# Altium schematic symbol library schmaticSMDv1.SchLib: 102 symbols (part 4 of 4)
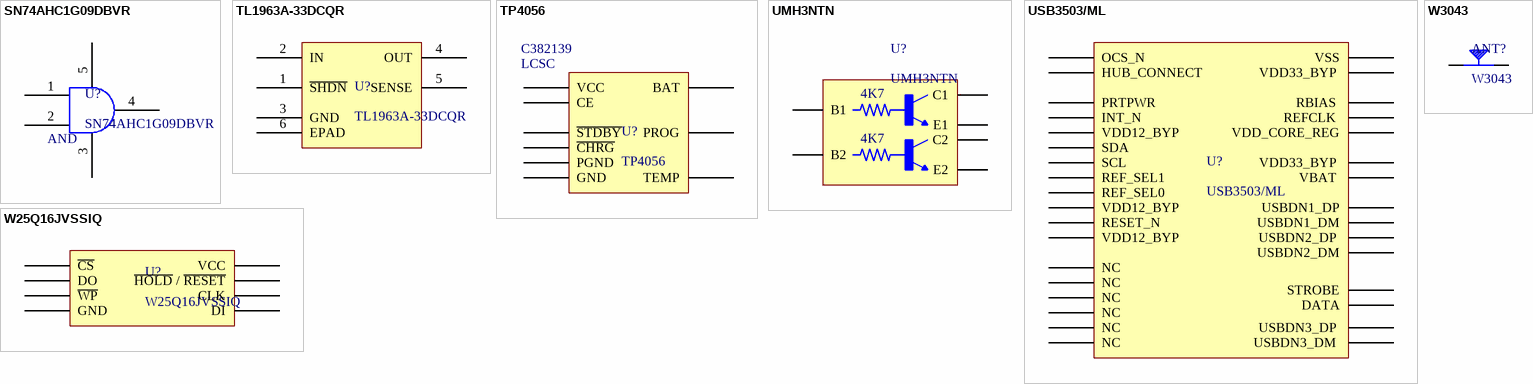
[diagram p6: symbols SN74AHC1G09DBVR to W3043]

## SN74AHC1G09DBVR
designator U?
Single 2-input, 2-V to 5.5-V AND gate with open-drain outputs 5-SOT-23 -55 to 125; Manufacturer: Texas Instruments; Min Supply Voltage: 2V; Max Supply Voltage: 5.5V; Quiescent Current: 1uA; Number of Inputs: 2; Propagation Delay: 7.5ns; Output Current: 25mA; Number of Circuits: 1; Low Level Output Current: 8mA; Supplier 1: Digi-Key; Manufacturer Part Number: SN74AHC1G09DBVR; RoHS: Yes; Category: Logic Gates; Pricing 1: 1=0.48000, 10=0.35600, 25=0.31160, 100=0.20170, 250=0.16696, 500=0.13356, 1000=0.10240 (USD); Mount: Surface Mount; Case/Package: SOT-23; Number of Pins: 5; Contact Plating: Tin,Matte; Min Operating Temperature: -55°C; Max Operating Temperature: 125°C; Logic Function: AND GATE; Package Quantity: 3000; Packaging: Tape and Reel; Number of Gates: 1; Number of Elements: 1; Number of Bits: 1; Series: 74AHC; Technology: CMOS; Output Voltage: 5.5V; Number of Outputs: 1; Radiation Hardening: No; REACH SVHC: No SVHC; Lead Free: Lead Free; RoHS Compliant: Yes; ComponentLink1URL: https://datasheet.ciiva.com/1864/sn74ahc1g09-1864410.pdf?src-supplier=Digi-Key; ComponentLink1Description: https://datasheet.ciiva.com/1864/sn74ahc1g09-1864410.pdf?src-supplier=Digi-Key; ComponentLink2URL: https://datasheet.ciiva.com/1864/sn74ahc1g09-1864411.pdf?src-supplier=Digi-Key; ComponentLink2Description: https://datasheet.ciiva.com/1864/sn74ahc1g09-1864411.pdf?src-supplier=Digi-Key; ComponentLink3URL: https://datasheet.ciiva.com/1864/sn74ahc1g09-1864412.pdf?src-supplier=Digi-Key; ComponentLink3Description: https://datasheet.ciiva.com/1864/sn74ahc1g09-1864412.pdf?src-supplier=Digi-Key; Supplier Part Number 1: 296-29202-1-ND
footprint DBV_SOT_5
pins: 1, 2, 3, 4, 5
text: AND

## TL1963A-33DCQR
designator U?
LDO Regulator Pos 3.3V 1.5A 6-Pin(5+Tab) SOT-223 T/R; Manufacturer: Texas Instruments; Dropout Voltage: 340mV; Number of Outputs: 1; Max Input Voltage: 20V; Min Input Voltage: 2.1V; Min Current Limit: 1.6A; Input Bias Current: 1mA; Polarity: Positive; Accuracy: 3%; Output Type: Fixed; Supplier 1: Digi-Key; Manufacturer Part Number: TL1963A-33DCQR; RoHS: Yes; Category: Voltage Regulators - Linear; Pricing 1: 1=3.62000, 10=3.25200, 25=3.07440, 100=2.66440, 250=2.52772, 500=2.26812, 1000=2.25575 (USD); Case/Package: SOT-223; Number of Pins: 6; Contact Plating: Gold; Min Operating Temperature: -40°C; Max Operating Temperature: 125°C; Package Quantity: 1; Packaging: Tape and Reel; Output Voltage: 3.3V; Output Current: 1.5A; Max Output Current: 1.5A; Number of Regulators: 1; Quiescent Current: 1mA; Max Output Voltage: 3.3V; Min Output Voltage: 3.3V; Series: -; Radiation Hardening: No; Lead Free: Lead Free; RoHS Compliant: Yes; ComponentLink1URL: https://datasheet.ciiva.com/2046/tl1963a-2046161.pdf?src-supplier=Digi-Key; ComponentLink1Description: https://datasheet.ciiva.com/2046/tl1963a-2046161.pdf?src-supplier=Digi-Key; ComponentLink2URL: https://datasheet.ciiva.com/2046/tl1963a-2046162.pdf?src-supplier=Digi-Key; ComponentLink2Description: https://datasheet.ciiva.com/2046/tl1963a-2046162.pdf?src-supplier=Digi-Key; ComponentLink3URL: https://datasheet.ciiva.com/2046/tl1963a-2046163.pdf?src-supplier=Digi-Key; ComponentLink3Description: https://datasheet.ciiva.com/2046/tl1963a-2046163.pdf?src-supplier=Digi-Key; ComponentLink4URL: https://datasheet.ciiva.com/26176/tl1963a-25-26176569.pdf?src-supplier=Avnet+Europe; ComponentLink4Description: https://datasheet.ciiva.com/26176/tl1963a-25-26176569.pdf?src-supplier=Avnet+Europe; Supplier Part Number 1: 296-24534-6-ND
footprint TL1963A-33DCQR
pins: 1 ~{SHDN}, 2 IN, 3 GND, 4 OUT, 5 SENSE, 6 EPAD

## TP4056
designator U?  Supplier 1: LCSC  Supplier Part Number 1: C382139
Res Thick Film 0805 1.2K Ohm 1% 0.125W(1/8W) ±100ppm/C Pad SMD T/R; Manufacturer: TPOWER; Resistance: 1.2kR; Temperature Coefficient: 100ppm/°C; Voltage Rating: 150V; Power Rating: 125mW; Manufacturer Part Number: TP4056; RoHS: No; Stock 1: 30410; Pricing 1: 5=0.12500, 50=0.10080, 150=0.08880, 500=0.07970, 2500=0.07250, 4000=0.06890 (USD); Category: Chip SMD Resistors; Stock 2: 795; Pricing 2: 1=0.10000, 10=0.02900, 50=0.02900, 100=0.01400, 1000=0.00600, 10000=0.00300 (USD); Case/Package: 0805; Case Code (Imperial): 0805; Case Code (Metric): 2012; Min Operating Temperature: -55°C; Max Operating Temperature: 155°C; Tolerance: 1%; Resistor Type: Thick Film; Packaging: Tape and Reel; Package Quantity: 1; Termination: SMD/SMT; Number of Terminations: 2; Max Power Dissipation: 125mW; Working Voltage: 150V; Features: Moisture Resistant; Series: RC; Resistance Tolerance: 1%; Technology: THICK FILM; Construction: Rectangular; Length: 0.079inch; Width: 0.049inch; Height: 0.024inch; Depth: 1.25mm; Lead Free: Lead Free; Military Standard: Not; RoHS Compliant: Yes; ComponentLink1URL: https://datasheet.ciiva.com/11808/0900766b8106beab-11808865.pdf?src-supplier=RSComponents; ComponentLink1Description: https://datasheet.ciiva.com/11808/0900766b8106beab-11808865.pdf?src-supplier=RSComponents; ComponentLink2URL: https://datasheet.ciiva.com/2457/pyu-r-int-thick-7-2457192.pdf?src-supplier=Digi-Key; ComponentLink2Description: https://datasheet.ciiva.com/2457/pyu-r-int-thick-7-2457192.pdf?src-supplier=Digi-Key; ComponentLink3URL: https://datasheet.ciiva.com/2457/pyu-r-int-thick-7-2457193.pdf?src-supplier=Digi-Key; ComponentLink3Description: https://datasheet.ciiva.com/2457/pyu-r-int-thick-7-2457193.pdf?src-supplier=Digi-Key; ComponentLink4URL: https://datasheet.ciiva.com/2457/pyu-r-int-thick-7-2457191.pdf?src-supplier=Digi-Key; ComponentLink4Description: https://datasheet.ciiva.com/2457/pyu-r-int-thick-7-2457191.pdf?src-supplier=Digi-Key; ComponentLink5URL: https://datasheet.ciiva.com/12656/rc0805-12656886.pdf?src-supplier=Mouser; ComponentLink5Description: https://datasheet.ciiva.com/12656/rc0805-12656886.pdf?src-supplier=Mouser; ComponentLink6URL: https://datasheet.ciiva.com/15189/getdatasheetpartid-348582-15189915.pdf?src-supplier=Verical; ComponentLink6Description: https://datasheet.ciiva.com/15189/getdatasheetpartid-348582-15189915.pdf?src-supplier=Verical
footprint SOP_8
pins: 1 TEMP, 2 PROG, 3 GND, 4 VCC, 5 BAT, 6 ~{STDBY}, 7 ~{CHRG}, 8 CE, 9 PGND

## UMH3NTN
designator U?
TRANS 2NPN PREBIAS 0.15W UMT6; Manufacturer: Rohm; Collector Emitter Voltage (VCEO): 50V; Emitter Base Voltage (VEBO): 5V; Max Collector Current: 100mA; hFE Min: 100; Polarity: NPN; Power Dissipation: 150mW; Transition Frequency: 250MHz; Element Configuration: Dual; Collector-emitter Voltage-Max: 300mV; Manufacturer Part Number: UMH3NTN; RoHS: Yes; Category: BJTs; Stock 1: 14510; Pricing 1: 1=0.48000, 10=0.36200, 100=0.22560, 500=0.15434, 1000=0.11872 (USD); Mount: Surface Mount; Case/Package: SOT-363; Number of Pins: 6; Min Operating Temperature: -55°C; Max Operating Temperature: 150°C; Max Output Current: 100mA; Operating Supply Voltage: 50V; Packaging: Tape and Reel; Package Quantity: 3000; Continuous Collector Current: 100mA; Collector Emitter Breakdown Voltage: 50V; Max Power Dissipation: 150mW; Max Breakdown Voltage: 50V; Voltage Rating (DC): 50V; Current Rating: 100mA; Collector Base Voltage (VCBO): 50V; Series: -; Radiation Hardening: No; Reach SVHC Compliant: Yes; Lead Free: Lead Free; RoHS Compliant: Yes; ComponentLink1URL: https://datasheet.ciiva.com/22711/1645293-22711825.pdf?src-supplier=Element14; ComponentLink1Description: https://datasheet.ciiva.com/22711/1645293-22711825.pdf?src-supplier=Element14; ComponentLink2URL: https://datasheet.ciiva.com/29322/140593-da-01-en-transistor-umh3-ntn-sot-363-29322757.pdf?src-supplier=Conrad; ComponentLink2Description: https://datasheet.ciiva.com/29322/140593-da-01-en-transistor-umh3-ntn-sot-363-29322757.pdf?src-supplier=Conrad; ComponentLink3URL: https://datasheet.ciiva.com/1193/1645293-1193640.pdf?src-supplier=Element14; ComponentLink3Description: https://datasheet.ciiva.com/1193/1645293-1193640.pdf?src-supplier=Element14; ComponentLink4URL: https://datasheet.ciiva.com/969/umh3n-969834.pdf?src-supplier=Digi-Key; ComponentLink4Description: https://datasheet.ciiva.com/969/umh3n-969834.pdf?src-supplier=Digi-Key; ComponentLink5URL: https://datasheet.ciiva.com/969/umh3n-969835.pdf?src-supplier=Digi-Key; ComponentLink5Description: https://datasheet.ciiva.com/969/umh3n-969835.pdf?src-supplier=Digi-Key; ComponentLink6URL: https://datasheet.ciiva.com/969/umh3n-969833.pdf?src-supplier=Digi-Key; ComponentLink6Description: https://datasheet.ciiva.com/969/umh3n-969833.pdf?src-supplier=Digi-Key; Supplier 1: Digi-Key; Supplier Part Number 1: UMH3NTNCT-ND
footprint SOT-363
pins: 1 E1, 2 B1, 3 C2, 4 E2, 5 B2, 6 C1
text: 4K7

## USB3503/ML
designator U?
Low Speed/Full Speed/High Speed Hub Controller USB 2.0 3.3V/5V Tray 32-Pin SQFN EP; Manufacturer: Microchip; Interface: USB,I2C; Number of Transceivers: 3; ESD Protection: Yes; Operating Supply Voltage: 3.3V; Operating Supply Current: 24mA; Max Supply Voltage: 3.6V; Min Supply Voltage: 2.8V; Supplier 1: Arrow Electronics; Manufacturer Part Number: USB3503/ML; RoHS: Yes; Category: USB Interface ICs; Stock 1: 95; Pricing 1: 1=2.73900 (USD); Mount: Surface Mount; Case/Package: QFN; Number of Pins: 32; Min Operating Temperature: 0°C; Max Operating Temperature: 70°C; Package Quantity: 490; Packaging: Tray; Length: 5.1mm; Width: 5.1mm; Height: 0.95mm; Lead Free: Lead Free; RoHS Compliant: Yes; ComponentLink1URL: http://www.mouser.com/ds/2/268/00001584A-337089.pdf?src-supplier=Mouser; ComponentLink1Description: http://www.mouser.com/ds/2/268/00001584A-337089.pdf?src-supplier=Mouser; ComponentLink2URL: http://www.alliedelec.com/images/products/datasheets/bm/Microchip/70470333.pdf?src-supplier=Allied+Electronics; ComponentLink2Description: http://www.alliedelec.com/images/products/datasheets/bm/Microchip/70470333.pdf?src-supplier=Allied+Electronics; ComponentLink3URL: http://uk.rs-online.com/webdocs/1344/0900766b81344dc7.pdf?src-supplier=RSComponents; ComponentLink3Description: http://uk.rs-online.com/webdocs/1344/0900766b81344dc7.pdf?src-supplier=RSComponents; ComponentLink4URL: http://ww1.microchip.com/downloads/en/DeviceDoc/00001584.pdf?src-supplier=Avnet; ComponentLink4Description: http://ww1.microchip.com/downloads/en/DeviceDoc/00001584.pdf?src-supplier=Avnet; ComponentLink5URL: http://ww1.microchip.com/downloads/en/DeviceDoc/3503db.pdf?src-supplier=Digi-Key; ComponentLink5Description: http://ww1.microchip.com/downloads/en/DeviceDoc/3503db.pdf?src-supplier=Digi-Key; Supplier Part Number 1: USB3503/ML
footprint QFN32
pins: 1 OCS_N, 2 HUB_CONNECT, 3 NC, 4 PRTPWR, 5 INT_N, 6 VDD12_BYP , 7 SDA, 8 SCL , 9 REF_SEL1 , 10 REF_SEL0 , 11 VDD12_BYP , 12 RESET_N, 13 VDD12_BYP , 14 NC, 15 DATA, 16 STROBE, 17 NC, 18 NC, 19 USBDN3_DM , 20 USBDN3_DP , 21 USBDN2_DM, 22 USBDN2_DP , 23 USBDN1_DM, 24 USBDN1_DP, 25 VBAT , 26 VDD33_BYP , 27 NC, 28 VDD_CORE_REG, 29 REFCLK , 30 RBIAS , 31 NC, 32 VDD33_BYP , 33 VSS

## W25Q16JVSSIQ
designator U?
ICFLASH16MBIT133MHZ8SOIC; Manufacturer: Winbond; Memory Type: Non-Volatile,FLASH; Memory Size: 16Mb; Frequency: 133MHz; Supplier 1: Arrow Electronics; Manufacturer Part Number: W25Q16JVSSIQ; RoHS: Yes; Category: Flash; Stock 1: 2303; Pricing 1: 1=0.56810, 10=0.54950, 25=0.52050, 50=0.51750, 100=0.46070, 250=0.45500, 500=0.44820, 1000=0.43640, 5000=0.38170 (USD); Mount: Surface Mount; Case/Package: SOIC; Min Operating Temperature: -40°C; Max Operating Temperature: 85°C; Packaging: Rail/Tube; RoHS Compliant: Yes; ComponentLink1URL: http://www.winbond.com/resource-files/w25q16jv%20spi%20revg%2003222018%20plus.pdf?src-supplier=Digi-Key; ComponentLink1Description: http://www.winbond.com/resource-files/w25q16jv%20spi%20revg%2003222018%20plus.pdf?src-supplier=Digi-Key; Supplier Part Number 1: W25Q16JVSSIQ
footprint SOIC-8
pins: 1 ~{CS}, 2 DO, 3 ~{WP}, 4 GND, 5 DI, 6 CLK, 7 ~{HOLD} / ~{RESET}, 8 VCC

## W3043
designator ANT?
Antenna Ceramic Monopole 4dB Gain 2483.5MHz SMD; Manufacturer: Pulse; Max Frequency: 2.4835GHz; Number of Bands: 2; Return Loss: -12dB; Impedance: 50R; Manufacturer Part Number: W3043; RoHS: Yes; Category: RF Antennas; Stock 1: 1794; Pricing 1: 1=1.59000, 10=1.43100, 25=1.35000, 100=1.15020, 250=1.08000, 500=0.94500, 1000=0.78300 (USD); Mount: Surface Mount; Case/Package: SMD/SMT; Min Operating Temperature: -40°C; Max Operating Temperature: 85°C; Packaging: Bulk; Package Quantity: 3000; Termination: Solder; Resistor Type: Ceramic; Length: 1.6mm; Width: 3.2mm; Height: 0.043inch; ComponentLink1URL: https://datasheet.ciiva.com/8153/+w3043-8153043.pdf?src-supplier=Avnet; ComponentLink1Description: https://datasheet.ciiva.com/8153/+w3043-8153043.pdf?src-supplier=Avnet; ComponentLink2URL: https://datasheet.ciiva.com/15329/268317-15329727.pdf?src-supplier=Mouser; ComponentLink2Description: https://datasheet.ciiva.com/15329/268317-15329727.pdf?src-supplier=Mouser; ComponentLink3URL: https://datasheet.ciiva.com/2792/+w3043-2792612.pdf?src-supplier=Digi-Key; ComponentLink3Description: https://datasheet.ciiva.com/2792/+w3043-2792612.pdf?src-supplier=Digi-Key; Supplier 1: Digi-Key; Supplier Part Number 1: 553-W3043CT-ND
footprint W3010
pins: 1, 2